# Altium integrated library ECS-50-20-5PX-TR.IntLib: 1 symbol
Pins are listed as number, name and electrical type; pins without a type are passive.

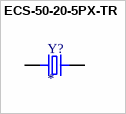
[diagram p0: symbol ECS-50-20-5PX-TR]

## ECS-50-20-5PX-TR
designator Y?
5 MHz Â±30ppm Crystal 20pF 80 Ohms HC-49/US; MF: ECS Inc.; MP: ECS-50-20-5PX-TR; SnapEDA_Link: https://www.snapeda.com/parts/ECS-50-20-5PX-TR/ECS/view-part/?ref=snap; Package: CSM-7X-3L-5G3X-2 ECS; Value: *; Check_prices: https://www.snapeda.com/parts/ECS-50-20-5PX-TR/ECS/view-part/?ref=eda
footprint XTAL_ECS-50-20-5PX-TR
pins: 1, 2